# Altium footprint library PCB - CONNECTOR - PHOENIX - PHOENIX 1727094.PcbLib: 1 footprints
Each footprint in its own frame and in the unit in brackets; x right, y up, seen from the top. Pads: shape width x height; smd on the part's side, far side on the other; paste and mask are expansions set on the pad; w line width, h text height; cw(c..) or ccw(c..) is an arc to the next point about the centre after c.
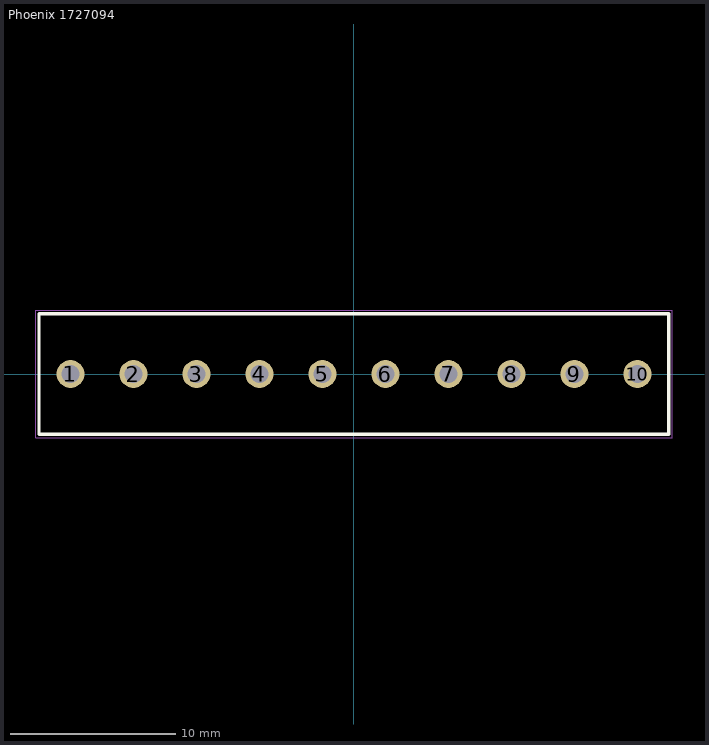
[diagram p0: the footprint, top view; thin cyan lines are the x and y axes]

## Phoenix 1727094 [mm] "Wire to Board Terminal Block Horizontal with Board Through Hole, 10 Position,3.81 mm Pitch, 38.1x7.3 mm Body"
height 8.5
pads (10):
  round 1.7 hole 1.1: 1(-17.145,0) 2(-13.335,0) 3(-9.525,0) 4(-5.715,0) 5(-1.905,0) 6(1.905,0) 7(5.715,0) 8(9.525,0) 9(13.335,0) 10(17.145,0)
Top Overlay:
  lines w0.2: -19.05,-3.65 19.05,-3.65 19.05,3.65 -19.05,3.65 -19.05,-3.65
Mechanical 1:
  lines w0.1: -19.05,-3.65 19.05,-3.65 19.05,3.65 -19.05,3.65 -19.05,-3.65
Mechanical 15 (Mech15):
  lines w0.05: -19.24,-3.85 19.25,-3.85 19.25,3.85 -19.24,3.85 -19.24,-3.85
3D body "Phoenix Contact - 1727094 v2.step": height 8.5, standoff -3.5, extent -19.05,-3.65 19.05,3.65